# Altium schematic symbol library TLP5754.SchLib: 1 symbol
Pins are listed as number, name and electrical type; pins without a type are passive.

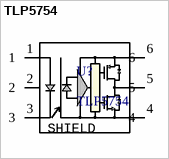
[diagram p0: symbol TLP5754]

## TLP5754
designator U?
footprint SO6L_TOS
footprint SO6L_TOS-L
footprint SO6L_TOS-M
pins: 1, 2, 3, 4, 5, 6
text: SHIELD